# EAGLE library part HC06 (library 1_Robo-Lib)
Bluetooth Modul HC06
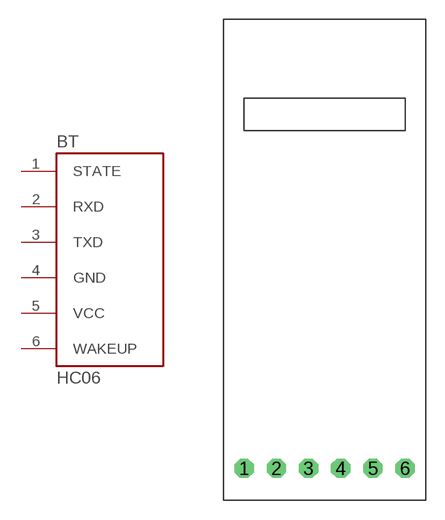
[diagram p20: symbol with the pads of HC06; footprint HC06]

Designator prefix BT

## HC06  [HC06]
1  STATE
2  RXD  in
3  TXD  out
4  GND  pwr
5  VCC  pwr
6  WAKEUP

## Footprint HC06 (pad centres in mm)
drill 1.016 octagon: 1 -6.35,0; 2 -3.81,0; 3 -1.27,0; 4 1.27,0; 5 3.81,0; 6 6.35,0